# Altium footprint library EVPASAC1A.PcbLib: 1 footprints
Each footprint in its own frame and in the unit in brackets; x right, y up, seen from the top. Pads: shape width x height; smd on the part's side, far side on the other; paste and mask are expansions set on the pad; w line width, h text height; cw(c..) or ccw(c..) is an arc to the next point about the centre after c.
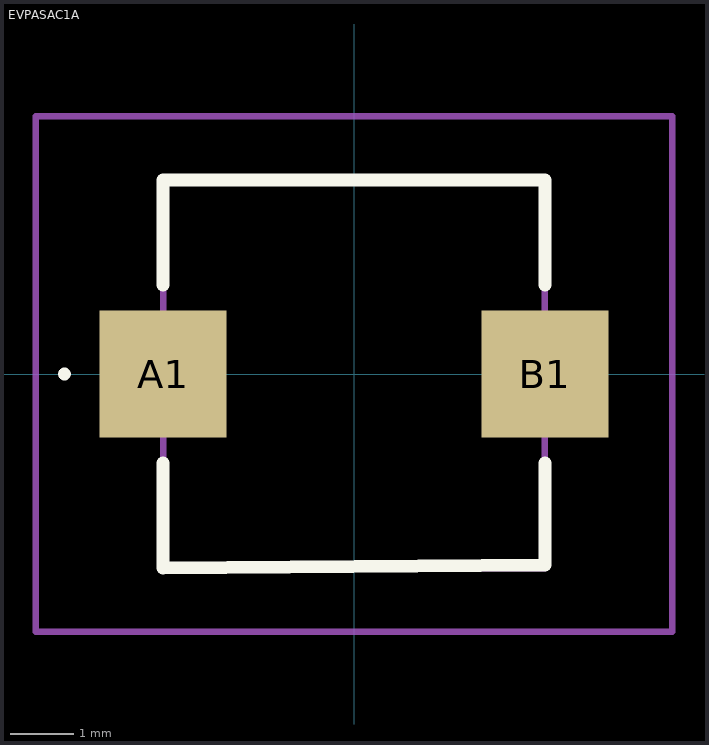
[diagram p0: the footprint, top view; thin cyan lines are the x and y axes]

## EVPASAC1A [mm]
pads (2):
  rect 2x2 smd: A1(-3,0) B1(3,0)
Top Overlay:
  lines w0.1: -4.6,0 -4.6,0 ; -4.6,0 ccw(c-4.55,0) -4.5,0 ; -4.6,0 cw(c-4.55,0) -4.5,0 ; -4.5,0 -4.5,0
  lines w0.2: -3,-1.4 -3,-3.05 3,-3 3,-1.4 ; -3,1.4 -3,3.05 3,3.05 3,1.4
Mechanical 15:
  lines w0.1: -3,-3.05 3,-3.05 3,3.05 -3,3.05 -3,-3.05
Mechanical 20:
  lines w0.1: -5,-4.05 5,-4.05 5,4.05 -5,4.05 -5,-4.05